# EAGLE library part SIP3XB (library rezistory)
Rezistorová sít
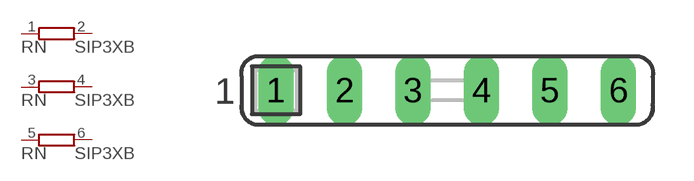
[diagram p0: symbol with the pads of SIL6; footprint SIL6]

Designator prefix RN; gates G$1=RPV G$2=RPV G$3=RPV

## SIP3XB  [SIL6]
1  G$1:1  pas
2  G$1:2  pas
3  G$2:1  pas
4  G$2:2  pas
5  G$3:1  pas
6  G$3:2  pas

## Footprint SIL6 (pad centres in mm)
drill 0.813 long: 1 -6.35,0; 2 -3.81,0; 3 -1.27,0; 4 1.27,0; 5 3.81,0; 6 6.35,0